# EAGLE library part RF_SOLUTIONS_RF_LORA_868_SO (library lora-lorawan-modules)
RF Solutions LoRaWAN module RF-LORA-886-SO Link: https://www.rfsolutions.co.uk/radio-modules-c10/frequency-c57/fm-lora-transceiver-module-pre-set-to-868mhz-p468
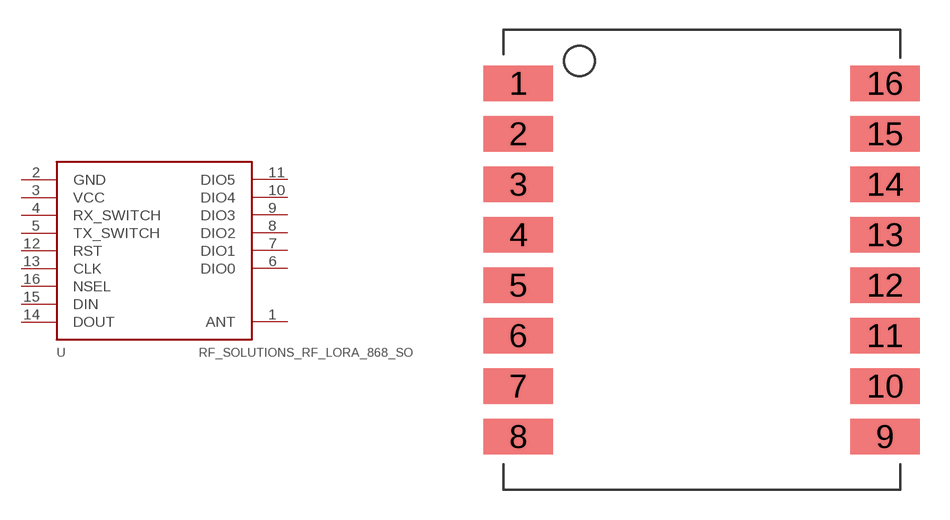
[diagram p0: symbol with the pads of RF_SOLUTIONS_RF_LORA_868_SO; footprint RF_SOLUTIONS_RF_LORA_868_SO]

Designator prefix -

## RF_SOLUTIONS_RF_LORA_868_SO  [RF_SOLUTIONS_RF_LORA_868_SO]
1  ANT
2  GND  pwr
3  VCC  pwr
4  RX_SWITCH  in
5  TX_SWITCH  in
6  DIO0
7  DIO1
8  DIO2
9  DIO3
10  DIO4
11  DIO5
12  RST  in
13  CLK  in
14  DOUT  out
15  DIN  in
16  NSEL  in

## Footprint RF_SOLUTIONS_RF_LORA_868_SO (pad centres in mm)
smd 3.5 x 1.78: 1 0.736,20.458; 2 0.736,17.918; 3 0.736,15.378; 4 0.736,12.838; 5 0.736,10.298; 6 0.736,7.758; 7 0.736,5.218; 8 0.736,2.678; 9 19.184,2.677; 10 19.184,5.217; 11 19.184,7.757; 12 19.184,10.297; 13 19.184,12.837; 14 19.184,15.377; 15 19.184,17.917; 16 19.184,20.457